# EAGLE library part FE11-2 (library shepherd)
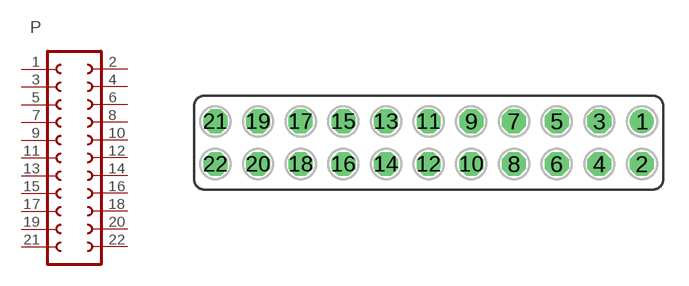
[diagram p31: symbol with the pads of FE11-2; footprint FE11-2]

Designator prefix P

## FE11-2  [FE11-2]
1  25  pas
2  26  pas
3  27  pas
4  28  pas
5  29  pas
6  30  pas
7  31  pas
8  32  pas
9  33  pas
10  34  pas
11  35  pas
12  36  pas
13  37  pas
14  38  pas
15  39  pas
16  40  pas
17  41  pas
18  42  pas
19  43  pas
20  44  pas
21  45  pas
22  46  pas

## Footprint FE11-2 (pad centres in mm)
FEMALE HEADER
drill 0.914: 1 12.7,1.27
drill 0.914 octagon: 2 12.7,-1.27; 3 10.16,1.27; 4 10.16,-1.27; 5 7.62,1.27; 6 7.62,-1.27; 7 5.08,1.27; 8 5.08,-1.27; 9 2.54,1.27; 10 2.54,-1.27; 11 0,1.27; 12 0,-1.27; 13 -2.54,1.27; 14 -2.54,-1.27; 15 -5.08,1.27; 16 -5.08,-1.27; 17 -7.62,1.27; 18 -7.62,-1.27; 19 -10.16,1.27; 20 -10.16,-1.27; 21 -12.7,1.27; 22 -12.7,-1.27